# Altium footprint library XFL4020152MEC.PcbLib: 1 footprints
Each footprint in its own frame and in the unit in brackets; x right, y up, seen from the top. Pads: shape width x height; smd on the part's side, far side on the other; paste and mask are expansions set on the pad; w line width, h text height; cw(c..) or ccw(c..) is an arc to the next point about the centre after c.
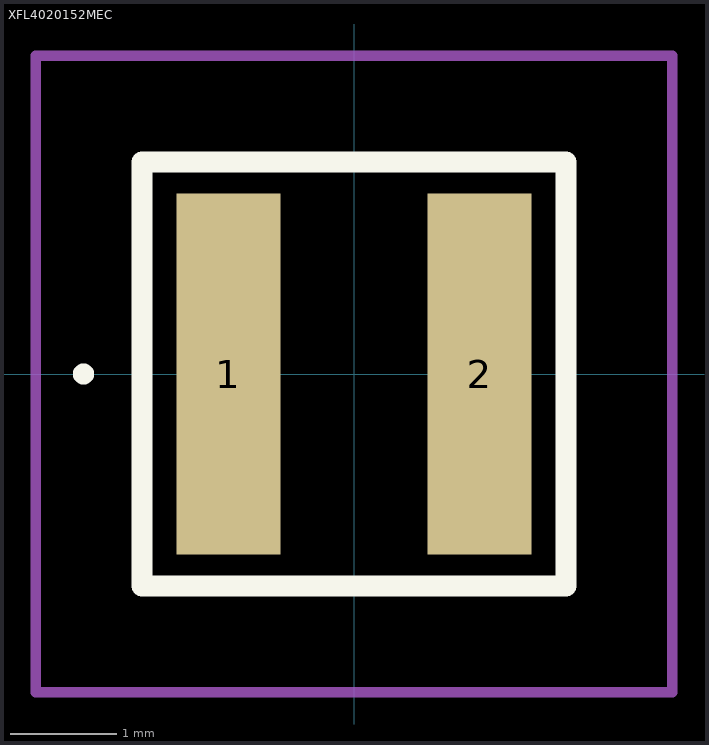
[diagram p0: the footprint, top view; thin cyan lines are the x and y axes]

## XFL4020152MEC [mm]
pads (2):
  rect 0.98x3.4 smd: 1(-1.185,0) 2(1.185,0)
Top Overlay:
  lines w0.1: -2.6,0 -2.6,0 ; -2.6,0 ccw(c-2.55,0) -2.5,0 ; -2.6,0 cw(c-2.55,0) -2.5,0 ; -2.5,0 -2.5,0
  lines w0.2: -2,-2 2,-2 2,2 -2,2 -2,-2
Mechanical 15:
  lines w0.1: -2,-2 2,-2 2,2 -2,2 -2,-2
Mechanical 20:
  lines w0.1: -3,-3 3,-3 3,3 -3,3 -3,-3